# Altium schematic symbol library STD35P6LLF6.SchLib: 1 symbol
Pins are listed as number, name and electrical type; pins without a type are passive.

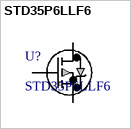
[diagram p0: symbol STD35P6LLF6]

## STD35P6LLF6
designator U?
MOSFET P-channel 60 V, 0.025 Ohm typ., 35 A STripFET F6 Power MOSFET in a DPAK package; Manufacturer_Part_Number: STD35NF06T4; Vendor: STMicroelectronics; Built_By: EMA_UL_Team; C: Copyright (C) 2015 Accelerated Designs. All rights reserved; RefDes: RefDes; Type: DEV; Value: Value; Supplier 1: Mouser; Supplier Part Number 1: 511-STD35P6LLF6
footprint DPAK
pins: 1 G, 2 D, 3 S